# Altium footprint library DFN40200X200X85-10N.PcbLib: 1 footprints
Each footprint in its own frame and in the unit in brackets; x right, y up, seen from the top. Pads: shape width x height; smd on the part's side, far side on the other; paste and mask are expansions set on the pad; w line width, h text height; cw(c..) or ccw(c..) is an arc to the next point about the centre after c.
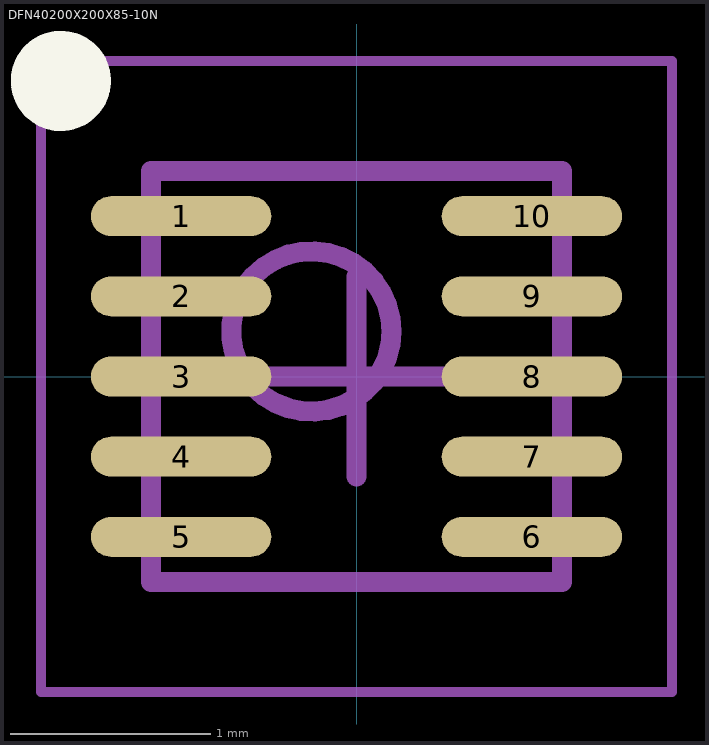
[diagram p0: the footprint, top view; thin cyan lines are the x and y axes]

## DFN40200X200X85-10N [mm] "QFN, 10-Leads, Body 2.00x2.00mm, Pitch 0.40mm, IPC Medium Density"
height 0.9
pads (10):
  oval 0.9x0.2 smd: 1(-0.875,0.8) 2(-0.875,0.4) 3(-0.875,0) 4(-0.875,-0.4) 5(-0.875,-0.8) 6(0.875,-0.8) 7(0.875,-0.4) 8(0.875,0) 9(0.875,0.4) 10(0.875,0.8)
Top Overlay:
  circle w0.25: c-1.475,1.475 r0.125
Mechanical 13:
  circle w0.1: c-0.225,0.225 r0.4
  lines w0.1: -1.025,-1.025 1.025,-1.025 1.025,1.025 -1.025,1.025 -1.025,-1.025
Mechanical 15:
  lines w0.05: -1.575,-1.575 1.575,-1.575 1.575,1.575 -1.575,1.575 -1.575,-1.575
  lines w0.1: -0.5,0 0.5,0 ; 0,-0.5 0,0.5
3D body: height 0.9, standoff 0, extent -1.025,-1.025 1.025,1.025